# EAGLE library part AM26LV32D (library lib_paul)
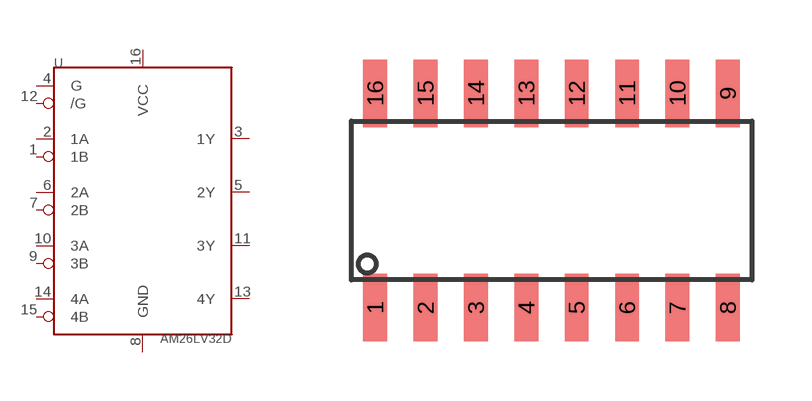
[diagram p13: symbol with the pads of SMD_D16; footprint SMD_D16]

Designator prefix -

## AM26LV32D  [SMD_D16]
1  1B
2  1A
3  1Y
4  G
5  2Y
6  2A
7  2B
8  GND
9  3B
10  3A
11  3Y
12  /G
13  4Y
14  4A
15  4B
16  VCC

## Footprint SMD_D16 (pad centres in mm)
smd 0.6 x 1.7: 1 0,0; 2 1.27,0; 3 2.54,0; 4 3.81,0; 5 5.08,0; 6 6.35,0; 7 7.62,0; 8 8.89,0; 9 8.89,5.4; 10 7.62,5.4; 11 6.35,5.4; 12 5.08,5.4; 13 3.81,5.4; 14 2.54,5.4; 15 1.27,5.4; 16 0,5.4